# Altium schematic symbol library UAV_mainboard.SchLib: 116 symbols
Pins are listed as number, name and electrical type; pins without a type are passive.

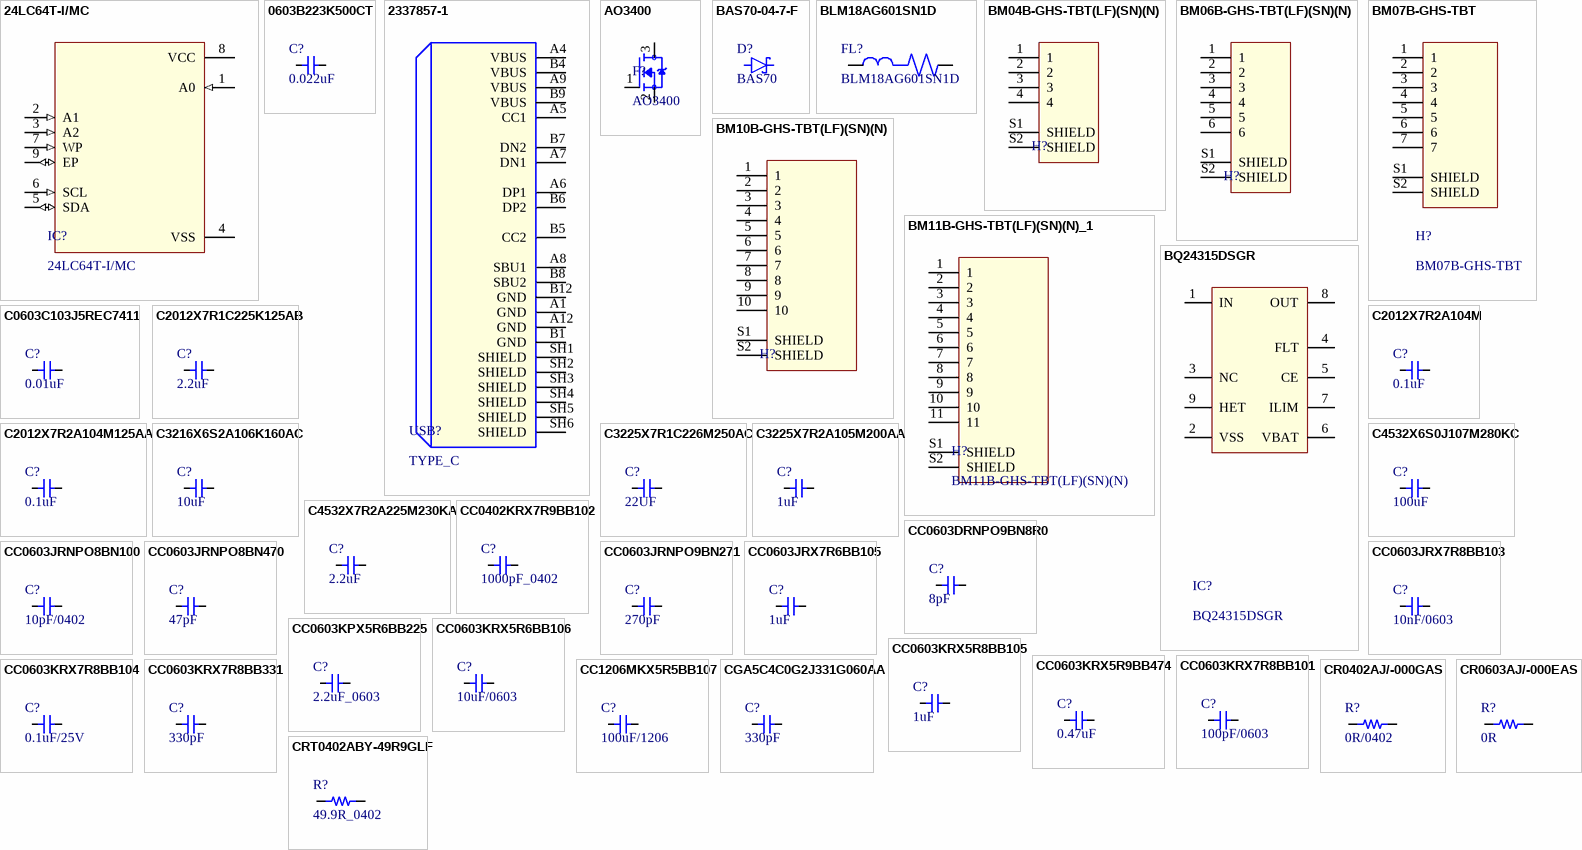
[diagram p0: symbols 24LC64T-I/MC to CRT0402ABY-49R9GLF]

## 24LC64T-I/MC
designator IC?
IC EEPROM 64KBIT I2C 400KHZ 8DFN
footprint 8DFN
pins: 1 A0 (in), 2 A1 (in), 3 A2 (in), 4 VSS (power), 5 SDA (io), 6 SCL (in), 7 WP (in), 8 VCC (power), 9 EP (io)

## 0603B223K500CT
designator C?, comment 0.022uF
0.022 µF ±10% 50V Ceramic Capacitor X7R 0603 (1608 Metric)
footprint C0603
pins: 1, 2

## 2337857-1
designator USB?, comment TYPE_C
VERTICAL USB TYPE-C REC
footprint 2337857-1
pins: A1 GND, A4 VBUS, A5 CC1, A6 DP1, A7 DN1, A8 SBU1, A9 VBUS, A12 GND, B1 GND, B4 VBUS, B5 CC2, B6 DP2, B7 DN2, B8 SBU2, B9 VBUS, B12 GND, SH1 SHIELD, SH2 SHIELD, SH3 SHIELD, SH4 SHIELD, SH5 SHIELD, SH6 SHIELD

## AO3400
designator F?
N-Channel 30 V 5.8A (Ta) 1.5W (Ta) Surface Mount SOT-23
footprint SOT-23
pins: 1 G, 2 S, 3 D

## BAS70-04-7-F
designator D?, comment BAS70
Schottky Diodes & Rectifiers 70V 200mW
footprint SOT-23-3
pins: 1 A, 3 C

## BLM18AG601SN1D
designator FL?
FERRITE BEAD 600 OHM 0603 1LN
footprint BEADC1608X95N
pins: 1, 2

## BM04B-GHS-TBT(LF)(SN)(N)
designator H?
Connector Header Surface Mount 4 position 0.049" (1.25mm)
footprint BM04B-GHS-TBT(LF)(SN)(N)
pins: 1, 2, 3, 4, S1 SHIELD, S2 SHIELD

## BM06B-GHS-TBT(LF)(SN)(N)
designator H?
Connector Header Surface Mount 6 position 0.049" (1.25mm)
footprint BM06B-GHS-TBT(LF)(SN)(N)
pins: 1, 2, 3, 4, 5, 6, S1 SHIELD, S2 SHIELD

## BM07B-GHS-TBT
designator H?
CONN HEADER SMD 7POS 1.25MM
footprint BM07B-GHS-TBT
pins: 1, 2, 3, 4, 5, 6, 7, S1 SHIELD, S2 SHIELD

## BM10B-GHS-TBT(LF)(SN)(N)
designator H?
Connector Header Surface Mount 10 position 0.049" (1.25mm)
footprint BM10B-GHS-TBT(LF)(SN)(N)
pins: 1, 2, 3, 4, 5, 6, 7, 8, 9, 10, S1 SHIELD, S2 SHIELD

## BM11B-GHS-TBT(LF)(SN)(N)_1
designator H?, comment BM11B-GHS-TBT(LF)(SN)(N)
Connector Header Surface Mount 11 position 0.049" (1.25mm)
footprint BM11B-GHS-TBT
pins: 1, 2, 3, 4, 5, 6, 7, 8, 9, 10, 11, S1 SHIELD, S2 SHIELD

## BQ24315DSGR
designator IC?
Overvoltage & Overcurrent Protection IC & Li+ Charger Front-End Protection IC
footprint WSON-8
pins: 1 IN, 2 VSS, 3 NC, 4 FLT, 5 CE, 6 VBAT, 7 ILIM, 8 OUT, 9 HET

## C0603C103J5REC7411
designator C?, comment 0.01uF
10000 pF ±5% 50V Ceramic Capacitor X7R 0603 (1608 Metric)
footprint C0603
pins: 1, 2

## C2012X7R1C225K125AB
designator C?, comment 2.2uF
2.2 µF ±10% 16V Ceramic Capacitor X7R 0805 (2012 Metric)
footprint C0805
pins: 1, 2

## C2012X7R2A104M
designator C?, comment 0.1uF
0.1 µF ±20% 100V Ceramic Capacitor X7R 0805 (2012 Metric)
footprint C0805
pins: 1, 2

## C2012X7R2A104M125AA
designator C?, comment 0.1uF
0.1 µF ±20% 100V Ceramic Capacitor X7R 0805 (2012 Metric)
footprint C0805
pins: 1, 2

## C3216X6S2A106K160AC
designator C?, comment 10uF
10 µF ±10% 100V Ceramic Capacitor X6S 1206 (3216 Metric)
footprint C1206
pins: 1, 2

## C3225X7R1C226M250AC
designator C?, comment 22UF
22 µF ±20% 16V Ceramic Capacitor X7R 1210 (3225 Metric)
footprint C1210
pins: 1, 2

## C3225X7R2A105M200AA
designator C?, comment 1uF
1 µF ±20% 100V Ceramic Capacitor X7R 1210 (3225 Metric)
footprint C1210
pins: 1, 2

## C4532X6S0J107M280KC
designator C?, comment 100uF
CAP CER 100UF 6.3V X6S 1812
footprint C1812
pins: 1, 2

## C4532X7R2A225M230KA
designator C?, comment 2.2uF
2.2 µF ±20% 100V Ceramic Capacitor X7R 1812 (4532 Metric)
footprint C1812
pins: 1, 2

## CC0402KRX7R9BB102
designator C?, comment 1000pF_0402
1000 pF ±10% 50V Ceramic Capacitor X7R 0402 (1005 Metric)
footprint C0402
pins: 1, 2

## CC0603DRNPO9BN8R0
designator C?, comment 8pF
8 pF ±0.5pF 50V Ceramic Capacitor C0G, NP0 0603 (1608 Metric)
footprint C0603
pins: 1, 2

## CC0603JRNPO8BN100
designator C?, comment 10pF/0402
10 pF ±5% 25V Ceramic Capacitor C0G, NP0 0603 (1608 Metric)
footprint C0603
pins: 1, 2

## CC0603JRNPO8BN470
designator C?, comment 47pF
47 pF ±5% 25V Ceramic Capacitor C0G, NP0 0603 (1608 Metric)
footprint C0603
pins: 1, 2

## CC0603JRNPO9BN271
designator C?, comment 270pF
270 pF ±5% 50V Ceramic Capacitor C0G, NP0 0603 (1608 Metric)
footprint C0603
pins: 1, 2

## CC0603JRX7R6BB105
designator C?, comment 1uF
CAP CER 1UF 10V X7R 0603
footprint C0603
pins: 1, 2

## CC0603JRX7R8BB103
designator C?, comment 10nF/0603
10000 pF ±5% 25V Ceramic Capacitor X7R 0603 (1608 Metric)
footprint C0603
pins: 1, 2

## CC0603KPX5R6BB225
designator C?, comment 2.2uF_0603
2.2 µF ±10% 10V Ceramic Capacitor X5R 0603 (1608 Metric)
footprint C0603
pins: 1, 2

## CC0603KRX5R6BB106
designator C?, comment 10uF/0603
10 µF ±10% 10V Ceramic Capacitor X5R 0603 (1608 Metric)
footprint C0603
pins: 1, 2

## CC0603KRX5R8BB105
designator C?, comment 1uF
1 µF ±10% 25V Ceramic Capacitor X5R 0603 (1608 Metric)
footprint C0603
pins: 1, 2

## CC0603KRX5R9BB474
designator C?, comment 0.47uF
0.47 µF ±10% 50V Ceramic Capacitor X5R 0603 (1608 Metric)
footprint C0603
pins: 1, 2

## CC0603KRX7R8BB101
designator C?, comment 100pF/0603
100 pF ±10% 25V Ceramic Capacitor X7R 0603 (1608 Metric)
footprint C0603
pins: 1, 2

## CC0603KRX7R8BB104
designator C?, comment 0.1uF/25V
CAP CER 0.1UF 25V X7R 0603
footprint C0603
pins: 1, 2

## CC0603KRX7R8BB331
designator C?, comment 330pF
330 pF ±10% 25V Ceramic Capacitor X7R 0603 (1608 Metric)
footprint C0603
pins: 1, 2

## CC1206MKX5R5BB107
designator C?, comment 100uF/1206
100 µF ±20% 6.3V Ceramic Capacitor X5R 1206 (3216 Metric)
footprint C1206
pins: 1, 2

## CGA5C4C0G2J331G060AA
designator C?, comment 330pF
Multilayer Ceramic Capacitors MLCC - SMD/SMT Automotive Grade,MLCC,1206,C0G,630V,330pF,+/-2%,0.6mm,AEC-Q200
footprint C1206
pins: 1, 2

## CR0402AJ/-000GAS
designator R?, comment 0R/0402
0 Ohms Jumper Chip Resistor 0402 (1005 Metric) Anti-Sulfur, Automotive AEC-Q200, Moisture Resistant Thick Film
footprint R0402
pins: 1, 2

## CR0603AJ/-000EAS
designator R?, comment 0R
0 Ohms Jumper Chip Resistor 0603 (1608 Metric) Anti-Sulfur, Automotive AEC-Q200, Moisture Resistant Thick Film
footprint R0603
pins: 1, 2

## CRT0402ABY-49R9GLF
designator R?, comment 49.9R_0402
49.9 kOhms ±0.1% 0.063W, 1/16W Chip Resistor 0402 (1005 Metric) Anti-Sulfur, Automotive AEC-Q200 Thin Film
footprint R0402
pins: 1, 2

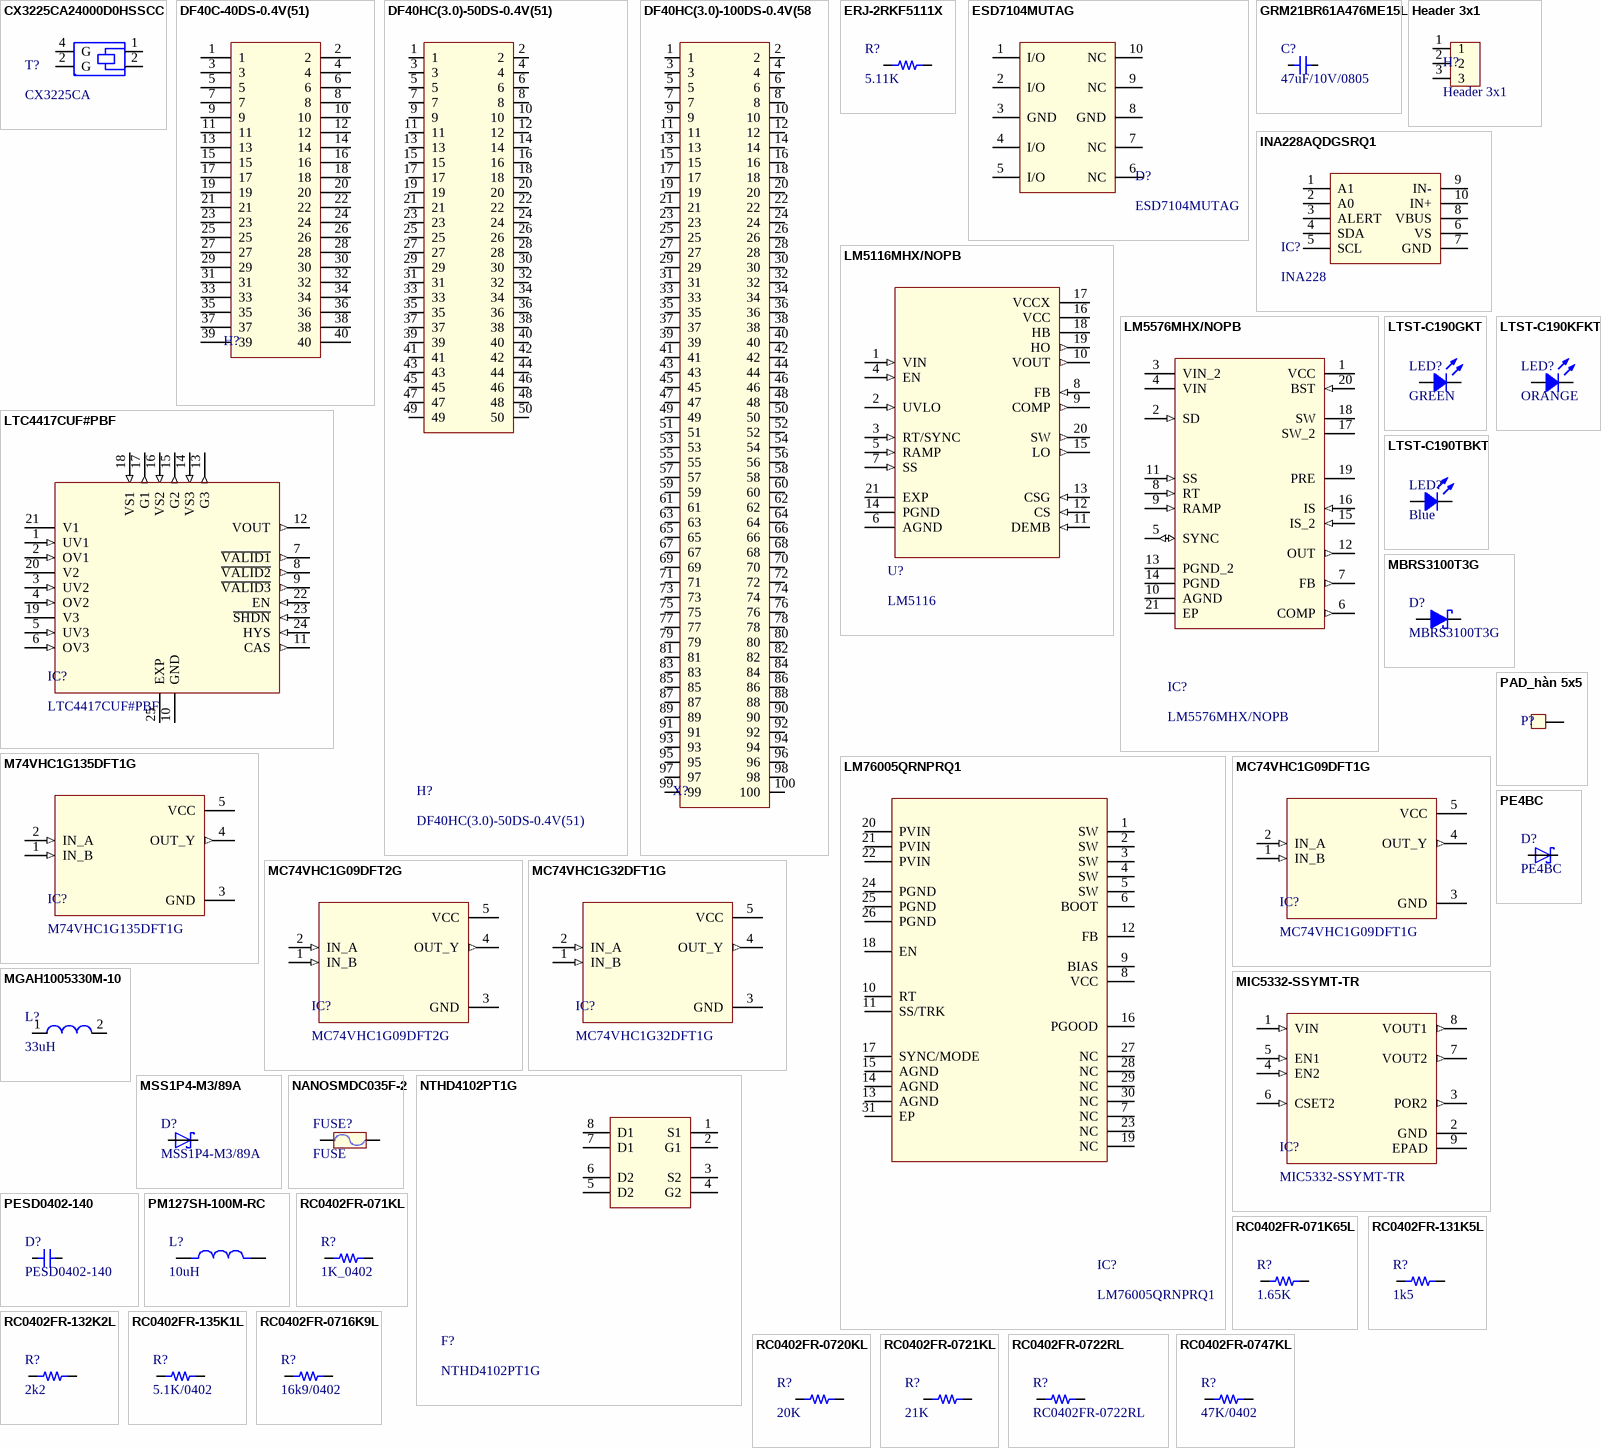
[diagram p1: symbols CX3225CA24000D0HSSCC to RC0402FR-0747KL]

## CX3225CA24000D0HSSCC
designator T?, comment CX3225CA
CRYSTAL 24.0000MHZ 8PF SMD
footprint CX3225CA24000D0HSSCC
pins: 1, 2, 2 G, 4 G

## DF40C-40DS-0.4V(51)
designator H?
Board to Board & Mezzanine Connectors 40P SMT RECEPTACLE NO FITTING, NO BOSS
footprint DF40C-40DS-0.4V(51)
pins: 1, 2, 3, 4, 5, 6, 7, 8, 9, 10, 11, 12, 13, 14, 15, 16, 17, 18, 19, 20, 21, 22, 23, 24, 25, 26, 27, 28, 29, 30, 31, 32, 33, 34, 35, 36, 37, 38, 39, 40

## DF40HC(3.0)-50DS-0.4V(51)
designator H?
CONN RCPT 50POS SMD GOLD
footprint DF40HC(4.0)-50DS-0.4V(51)
pins: 1, 2, 3, 4, 5, 6, 7, 8, 9, 10, 11, 12, 13, 14, 15, 16, 17, 18, 19, 20, 21, 22, 23, 24, 25, 26, 27, 28, 29, 30, 31, 32, 33, 34, 35, 36, 37, 38, 39, 40, 41, 42, 43, 44, 45, 46, 47, 48, 49, 50

## DF40HC(3.0)-100DS-0.4V(58
designator X?
100 Position Connector Receptacle, Center Strip Contacts Surface Mount Gold
footprint DF40HC(3.0)-100DS-0.4V(58
pins: 1, 2, 3, 4, 5, 6, 7, 8, 9, 10, 11, 12, 13, 14, 15, 16, 17, 18, 19, 20, 21, 22, 23, 24, 25, 26, 27, 28, 29, 30, 31, 32, 33, 34, 35, 36, 37, 38, 39, 40, 41, 42, 43, 44, 45, 46, 47, 48, 49, 50, 51, 52, 53, 54, 55, 56, 57, 58, 59, 60, 61, 62, 63, 64, 65, 66, 67, 68, 69, 70, 71, 72, 73, 74, 75, 76, 77, 78, 79, 80, 81, 82, 83, 84, 85, 86, 87, 88, 89, 90, 91, 92, 93, 94, 95, 96, 97, 98, 99, 100

## ERJ-2RKF5111X
designator R?, comment 5.11K
5.11 kOhms ±1% 0.1W, 1/10W Chip Resistor 0402 (1005 Metric) Automotive AEC-Q200 Thick Film
footprint R0402
pins: 1, 2

## ESD7104MUTAG
designator D?
TVS DIODE 5VWM 10VC 10UDFN
footprint UDFN10 2.5x1, 0.5P
pins: 1 I/O, 2 I/O, 3 GND, 4 I/O, 5 I/O, 6 NC, 7 NC, 8 GND, 9 NC, 10 NC

## GRM21BR61A476ME15L
designator C?, comment 47uF/10V/0805
47 µF ±20% 10V Ceramic Capacitor X5R 0805 (2012 Metric)
footprint C0805
pins: 1, 2

## Header 3x1
designator H?
footprint Header 3x1
pins: 1, 2, 3

## INA228AQDGSRQ1
designator IC?, comment INA228
Current & Power Monitors & Regulators AEC-Q100 85-V 20-b it ultraprecise I
footprint VSSOP10
pins: 1 A1, 2 A0, 3 ALERT, 4 SDA, 5 SCL, 6 VS, 7 GND, 8 VBUS, 9 IN-, 10 IN+

## LM5116MHX/NOPB
designator U?, comment LM5116
6-100V Wide Vin, Current Mode Synchronous Buck Controller
footprint HTSSOP-20
pins: 1 VIN (in), 2 UVLO (in), 3 RT/SYNC (in), 4 EN (in), 5 RAMP (in), 6 AGND (power), 7 SS (in), 8 FB (in), 9 COMP (out), 10 VOUT (out), 11 DEMB (in), 12 CS (in), 13 CSG (in), 14 PGND (power), 15 LO (out), 16 VCC (power), 17 VCCX (power), 18 HB (power), 19 HO (out), 20 SW (out), 21 EXP (power)

## LM5576MHX/NOPB
designator IC?
IC REG BUCK ADJ 3A 20HTSSOP
footprint 20HTSSOP
pins: 1 VCC (power), 2 SD (in), 3 VIN_2 (power), 4 VIN (power), 5 SYNC (io), 6 COMP (out), 7 FB (out), 8 RT (in), 9 RAMP (in), 10 AGND, 11 SS (in), 12 OUT (out), 13 PGND_2, 14 PGND, 15 IS_2 (in), 16 IS (in), 17 SW_2, 18 SW, 19 PRE, 20 BST (in), 21 EP

## LM76005QRNPRQ1
designator IC?
Buck Switching Regulator IC Positive Adjustable 1V 1 Output 5A 30-WFQFN Exposed Pad
footprint 30-WFQFN Exposed Pad
pins: 1 SW, 2 SW, 3 SW, 4 SW, 5 SW, 6 BOOT, 7 NC, 8 VCC, 9 BIAS, 10 RT, 11 SS/TRK, 12 FB, 13 AGND, 14 AGND, 15 AGND, 16 PGOOD, 17 SYNC/MODE, 18 EN, 19 NC, 20 PVIN, 21 PVIN, 22 PVIN, 23 NC, 24 PGND, 25 PGND, 26 PGND, 27 NC, 28 NC, 29 NC, 30 NC, 31 EP

## LTC4417CUF#PBF
designator IC?
IC OR CTRLR SRC SELECT 24QFN
footprint 24QFN
pins: 1 UV1 (in), 2 OV1 (in), 3 UV2 (in), 4 OV2 (in), 5 UV3 (in), 6 OV3 (in), 7 ~{VALID1} (out), 8 ~{VALID2} (out), 9 ~{VALID3} (out), 10 GND (power), 11 CAS (out), 12 VOUT (out), 13 G3 (out), 14 VS3 (in), 15 G2 (out), 16 VS2 (in), 17 G1 (out), 18 VS1 (in), 19 V3 (power), 20 V2 (power), 21 V1 (power), 22 EN (in), 23 ~{SHDN} (in), 24 HYS (in), 25 EXP (power)

## LTST-C190GKT
designator LED?, comment GREEN
Green 569nm LED Indication - Discrete 2.1V 0603 (1608 Metric)
footprint LED_GREEN_0603
pins: 1, 2

## LTST-C190KFKT
designator LED?, comment ORANGE
Orange 605nm LED Indication - Discrete 2V 0603 (1608 Metric)
footprint LED_ORANGE_0603
pins: 1, 2

## LTST-C190TBKT
designator LED?, comment Blue
LED BLUE CLEAR CHIP SMD
footprint LED_0603_BLUE
pins: 1, 2

## M74VHC1G135DFT1G
designator IC?
Single 2-Input NAND Gate, Schmitt Trigger ,Open Drain, SC-88A / SC-70-5
footprint SOT65P210X110-5N
pins: 1 IN_B (in), 2 IN_A (in), 3 GND (power), 4 OUT_Y (out), 5 VCC (power)

## MBRS3100T3G
designator D?
DIODE SCHOTTKY 100V 3A SMC
footprint MBRS3100T3G
pins: 1 A, 2 K

## MC74VHC1G09DFT1G
designator IC?
IC GATE AND 1CH 2-INP SC88A
footprint Model Name (Footprint not found)
footprint SOT65P210X110-5N
pins: 1 IN_B (in), 2 IN_A (in), 3 GND (power), 4 OUT_Y (out), 5 VCC (power)

## MC74VHC1G09DFT2G
designator IC?
Logic Gates 2-5.5V Single AND 2-Input w/Open Drain
footprint SOT65P210X110-5N
pins: 1 IN_B (in), 2 IN_A (in), 3 GND (power), 4 OUT_Y (out), 5 VCC (power)

## MC74VHC1G32DFT1G
designator IC?
IC GATE OR 1CH 2-INP SC88A
footprint SOT65P210X110-5N
pins: 1 IN_B (in), 2 IN_A (in), 3 GND (power), 4 OUT_Y (out), 5 VCC (power)

## MGAH1005330M-10
designator L?, comment 33uH
Power Inductors - SMD 33uH 0.075ohm 5A
footprint MGAH1005330M-10
pins: 1, 2

## MIC5332-SSYMT-TR
designator IC?
footprint 8-UFDFN
pins: 1 VIN (in), 2 GND (power), 3 POR2 (out), 4 EN2 (in), 5 EN1 (in), 6 CSET2 (in), 7 VOUT2 (out), 8 VOUT1 (out), 9 EPAD (power)

## MSS1P4-M3/89A
designator D?
Diode 40 V 1A Surface Mount DO-219AD (MicroSMP)
footprint MSS1P4-M3/89A
pins: 1 C, 2 A

## NANOSMDC035F-2
designator FUSE?, comment FUSE
Polymeric PTC Resettable Fuse 16V 350 mA Ih Surface Mount 1206 (3216 Metric), Concave
footprint FUSE_1206
pins: 1, 2

## NTHD4102PT1G
designator F?
MOSFET 2P-CH 20V 2.9A CHIPFET
footprint NTHD4102PT1G
pins: 1 S1, 2 G1, 3 S2, 4 G2, 5 D2, 6 D2, 7 D1, 8 D1

## PAD_hàn 5x5
designator P?
footprint PAD 5x5
pins: 1

## PE4BC
designator D?
Diode 100 V 4A Surface Mount DO-214AB (SMC)
footprint PE4BC
pins: 1 C, 2 A

## PESD0402-140
designator D?
40V Clamp - Ipp Tvs Diode Surface Mount 0402
footprint PESD0402-140 (40V Clamp - Ipp Tvs Diode Surface Mount 0402)
pins: 1, 2

## PM127SH-100M-RC
designator L?, comment 10uH
FIXED IND 10UH 6A 19.5 MOHM SMD
footprint PM127SH-100M-RC
pins: 1, 2

## RC0402FR-071K65L
designator R?, comment 1.65K
RES 1.65K OHM 1% 1/16W 0402
footprint R0402
pins: 1, 2

## RC0402FR-071KL
designator R?, comment 1K_0402
1 kOhms ±1% 0.063W, 1/16W Chip Resistor 0402 (1005 Metric) Moisture Resistant Thick Film
footprint R0402
pins: 1, 2

## RC0402FR-131K5L
designator R?, comment 1k5
1.5 kOhms ±1% 0.063W, 1/16W Chip Resistor 0402 (1005 Metric) Thick Film
footprint R0402
pins: 1, 2

## RC0402FR-132K2L
designator R?, comment 2k2
RES 2.2K OHM 1% 1/16W 0402
footprint R0402
pins: 1, 2

## RC0402FR-135K1L
designator R?, comment 5.1K/0402
Thick Film Resistors - SMD 5.1kOhms 1/16W 0402 1%
footprint R0402
pins: 1, 2

## RC0402FR-0716K9L
designator R?, comment 16k9/0402
16.9 kOhms ±1% 0.063W, 1/16W Chip Resistor 0402 (1005 Metric) Moisture Resistant Thick Film
footprint R0402
pins: 1, 2

## RC0402FR-0720KL
designator R?, comment 20K
RES 20K OHM 1% 1/16W 0402
footprint R0402
pins: 1, 2

## RC0402FR-0721KL
designator R?, comment 21K
/ 21 kOhms ±1% 0.063W, 1/16W Chip Resistor 0402 (1005 Metric) Moisture Resistant Thick Film
footprint R0402
pins: 1, 2

## RC0402FR-0722RL
designator R?
22 Ohms ±1% 0.063W, 1/16W Chip Resistor 0402 (1005 Metric) Moisture Resistant Thick Film
footprint R0402
pins: 1, 2

## RC0402FR-0747KL
designator R?, comment 47K/0402
47 kOhms ±1% 0.063W, 1/16W Chip Resistor 0402 (1005 Metric) Moisture Resistant Thick Film
footprint R0402
pins: 1, 2

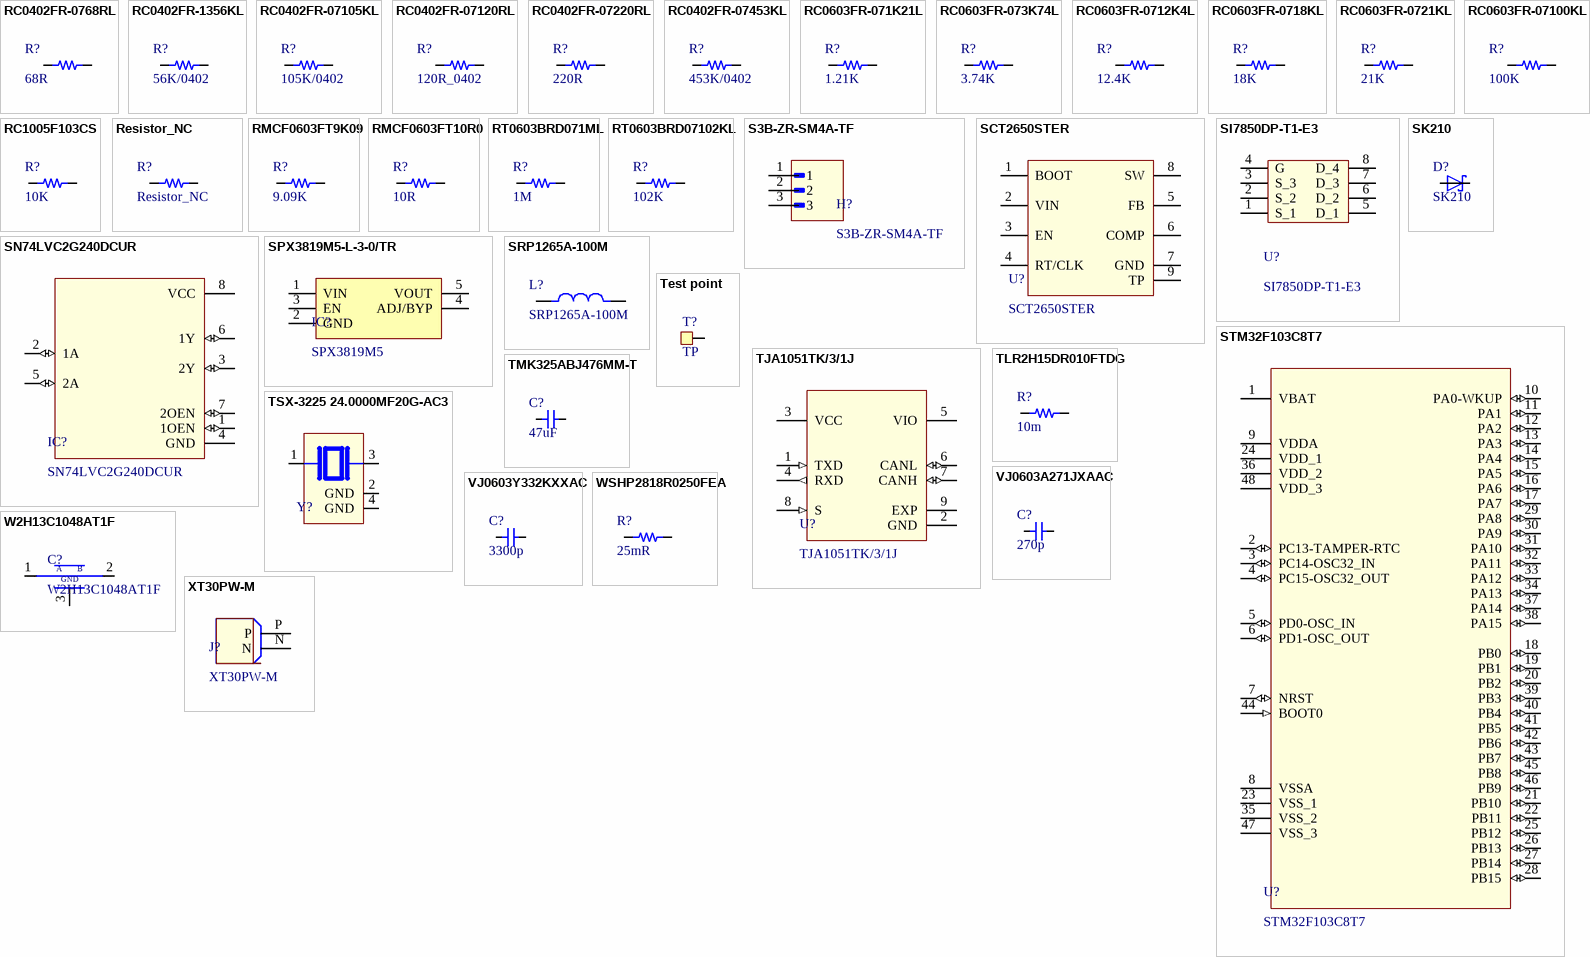
[diagram p2: symbols RC0402FR-0768RL to XT30PW-M]

## RC0402FR-0768RL
designator R?, comment 68R
68 Ohms ±1% 0.063W, 1/16W Chip Resistor 0402 (1005 Metric) Moisture Resistant Thick Film
footprint R0402
pins: 1, 2

## RC0402FR-1356KL
designator R?, comment 56K/0402
56 kOhms ±1% 0.063W, 1/16W Chip Resistor 0402 (1005 Metric) Thick Film
footprint R0402
pins: 1, 2

## RC0402FR-07105KL
designator R?, comment 105K/0402
105 kOhms ±1% 0.063W, 1/16W Chip Resistor 0402 (1005 Metric) Moisture Resistant Thick Film
footprint R0402
pins: 1, 2

## RC0402FR-07120RL
designator R?, comment 120R_0402
120 Ohms ±1% 0.063W, 1/16W Chip Resistor 0402 (1005 Metric) Moisture Resistant Thick Film
footprint R0402
pins: 1, 2

## RC0402FR-07220RL
designator R?, comment 220R
RES 220 OHM 1% 1/16W 0402
footprint R0402
pins: 1, 2

## RC0402FR-07453KL
designator R?, comment 453K/0402
453 kOhms ±1% 0.063W, 1/16W Chip Resistor 0402 (1005 Metric) Moisture Resistant Thick Film
footprint R0402
pins: 1, 2

## RC0603FR-071K21L
designator R?, comment 1.21K
1.21 kOhms ±1% 0.1W, 1/10W Chip Resistor 0603 (1608 Metric) Moisture Resistant Thick Film
footprint R0603
pins: 1, 2

## RC0603FR-073K74L
designator R?, comment 3.74K
3.74 kOhms ±1% 0.1W, 1/10W Chip Resistor 0603 (1608 Metric) Moisture Resistant Thick Film
footprint R0603
pins: 1, 2

## RC0603FR-0712K4L
designator R?, comment 12.4K
12.4 kOhms ±1% 0.1W, 1/10W Chip Resistor 0603 (1608 Metric) Moisture Resistant Thick Film
footprint R0603
pins: 1, 2

## RC0603FR-0718KL
designator R?, comment 18K
18 kOhms ±1% 0.1W, 1/10W Chip Resistor 0603 (1608 Metric) Moisture Resistant Thick Film
footprint R0603
pins: 1, 2

## RC0603FR-0721KL
designator R?, comment 21K
21 kOhms ±1% 0.1W, 1/10W Chip Resistor 0603 (1608 Metric) Moisture Resistant Thick Film
footprint R0603
pins: 1, 2

## RC0603FR-07100KL
designator R?, comment 100K
100 kOhms ±1% 0.1W, 1/10W Chip Resistor 0603 (1608 Metric) Moisture Resistant Thick Film
footprint R0603
pins: 1, 2

## RC1005F103CS
designator R?, comment 10K
RES SMD 10K OHM 1% 1/16W 0402
footprint R0402
pins: 1, 2

## Resistor_NC
designator R?
footprint R0603
pins: 1, 2

## RMCF0603FT9K09
designator R?, comment 9.09K
9.09 kOhms ±1% 0.1W, 1/10W Chip Resistor 0603 (1608 Metric) Automotive AEC-Q200 Thick Film
footprint R0603
pins: 1, 2

## RMCF0603FT10R0
designator R?, comment 10R
10 Ohms ±1% 0.1W, 1/10W Chip Resistor 0603 (1608 Metric) Automotive AEC-Q200 Thick Film
footprint R0603
pins: 1, 2

## RT0603BRD071ML
designator R?, comment 1M
1 MOhms ±0.1% 0.1W, 1/10W Chip Resistor 0603 (1608 Metric) Thin Film
footprint R0603
pins: 1, 2

## RT0603BRD07102KL
designator R?, comment 102K
102 kOhms ±0.1% 0.1W, 1/10W Chip Resistor 0603 (1608 Metric) Thin Film
footprint R0603
pins: 1, 2

## S3B-ZR-SM4A-TF
designator H?
Connector Header Surface Mount, Right Angle 3 position 0.059" (1.50mm)
footprint S3B-ZR-SM4A-TF
pins: 1, 2, 3

## SCT2650STER
designator U?
4.5V-60V Vin, 5A, High Efficienc
footprint ESOP8
pins: 1 BOOT, 2 VIN, 3 EN, 4 RT/CLK, 5 FB, 6 COMP, 7 GND, 8 SW, 9 TP

## SI7850DP-T1-E3
designator U?
MOSFETs 60V Vds 20V Vgs PowerPAK SO-8
footprint SO-8 Single
pins: 1 S_1, 2 S_2, 3 S_3, 4 G, 5 D_1, 6 D_2, 7 D_3, 8 D_4

## SK210
designator D?
Diode 100 V 2A Surface Mount DO-214AA (SMB)
footprint SK210
pins: A, K

## SN74LVC2G240DCUR
designator IC?
2-ch, 1.65-V to 5.5-V inverters with 3-state outputs
footprint SN74LVC2G240DCUR
pins: 1 1OEN (io), 2 1A (io), 3 2Y (io), 4 GND (power), 5 2A (io), 6 1Y (io), 7 2OEN (io), 8 VCC (power)

## SPX3819M5-L-3-0/TR
designator IC?, comment SPX3819M5
IC REG LINEAR 3V 500MA SOT23-5
footprint SOT23-5
pins: 1 VIN, 2 GND, 3 EN, 4 ADJ/BYP, 5 VOUT

## SRP1265A-100M
designator L?
FIXED IND 10UH 10A 16.5 MOHM SMD
footprint SRP1265A-100M
pins: 1, 2

## STM32F103C8T7
designator U?
ARM® Cortex®-M3 STM32F1 Microcontroller IC 32-Bit Single-Core 72MHz 64KB (64K x 8) FLASH 48-LQFP (7x7)
footprint 48-LQFP
pins: 1 VBAT (power), 2 PC13-TAMPER-RTC (io), 3 PC14-OSC32_IN (io), 4 PC15-OSC32_OUT (io), 5 PD0-OSC_IN (io), 6 PD1-OSC_OUT (io), 7 NRST (io), 8 VSSA, 9 VDDA (power), 10 PA0-WKUP (io), 11 PA1 (io), 12 PA2 (io), 13 PA3 (io), 14 PA4 (io), 15 PA5 (io), 16 PA6 (io), 17 PA7 (io), 18 PB0 (io), 19 PB1 (io), 20 PB2 (io), 21 PB10 (io), 22 PB11 (io), 23 VSS_1, 24 VDD_1 (power), 25 PB12 (io), 26 PB13 (io), 27 PB14 (io), 28 PB15 (io), 29 PA8 (io), 30 PA9 (io), 31 PA10 (io), 32 PA11 (io), 33 PA12 (io), 34 PA13 (io), 35 VSS_2, 36 VDD_2 (power), 37 PA14 (io), 38 PA15 (io), 39 PB3 (io), 40 PB4 (io), 41 PB5 (io), 42 PB6 (io), 43 PB7 (io), 44 BOOT0 (in), 45 PB8 (io), 46 PB9 (io), 47 VSS_3, 48 VDD_3 (power)

## Test point
designator T?, comment TP
1.2mmx1.2mm
footprint TP_1.2
pins: 1 (oe)

## TJA1051TK/3/1J
designator U?
IC TRANSCEIVER HALF 1/1 8HVSON
footprint 8HVSON
pins: 1 TXD (in), 2 GND (power), 3 VCC (power), 4 RXD (out), 5 VIO (power), 6 CANL (io), 7 CANH (io), 8 S (in), 9 EXP (power)

## TLR2H15DR010FTDG
designator R?, comment 10m
10 mOhms ±1% 1.5W Chip Resistor 2010 (5025 Metric) Current Sense Metal Foil
footprint R2010
pins: 1, 2

## TMK325ABJ476MM-T
designator C?, comment 47uF
47 µF ±20% 25V Ceramic Capacitor X5R 1210 (3225 Metric)
footprint C1210
pins: 1, 2

## TSX-3225 24.0000MF20G-AC3
designator Y?
24 MHz ±10ppm Crystal 20pF 40 Ohms 4-SMD, No Lead
footprint TSX-3225 24.0000MF20G-AC3
pins: 1, 2 GND (power), 3 2, 4 GND (power)

## VJ0603A271JXAAC
designator C?, comment 270p
270 pF ±5% 50V Ceramic Capacitor C0G, NP0 0603 (1608 Metric)
footprint C0603
pins: 1, 2

## VJ0603Y332KXXAC
designator C?, comment 3300p
3300 pF ±10% 25V Ceramic Capacitor X7R 0603 (1608 Metric)
footprint C0603
pins: 1, 2

## W2H13C1048AT1F
designator C?
Feed Through Capacitors 25V 0.1uF X7R
footprint W2H13C1048AT1F
footprint W2H13C1048AT1F
pins: 1, 2, 3, 4
text: A; B; GND

## WSHP2818R0250FEA
designator R?, comment 25mR
/ 25 mOhms ±1% 10W Chip Resistor Nonstandard Automotive AEC-Q200, Current Sense, Moisture Resistant, Pulse Withstanding Metal Element
footprint R2818
pins: 1, 2

## XT30PW-M
designator J?
Socket; DC supply; XT30; male; PIN: 2; on PCBs; THT; Colour: yellow
footprint XT30PW-M
pins: N (power), P (power)